# EAGLE library part CONN_SAS_MINI (library GPLIB_CONN)
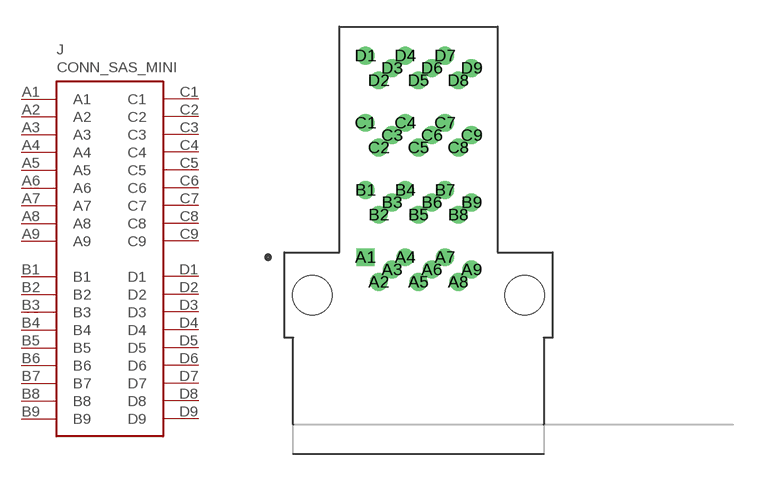
[diagram p39: symbol with the pads of CONN_SAS_MINI_AMPHENOL_G40H11331HR; footprint CONN_SAS_MINI_AMPHENOL_G40H11331HR]

Designator prefix J

## CONN_SAS_MINI  [CONN_SAS_MINI_AMPHENOL_G40H11331HR]
A1  A1  pas
A2  A2  pas
A3  A3  pas
A4  A4  pas
A5  A5  pas
A6  A6  pas
A7  A7  pas
A8  A8  pas
A9  A9  pas
B1  B1  pas
B2  B2  pas
B3  B3  pas
B4  B4  pas
B5  B5  pas
B6  B6  pas
B7  B7  pas
B8  B8  pas
B9  B9  pas
C1  C1  pas
C2  C2  pas
C3  C3  pas
C4  C4  pas
C5  C5  pas
C6  C6  pas
C7  C7  pas
C8  C8  pas
C9  C9  pas
D1  D1  pas
D2  D2  pas
D3  D3  pas
D4  D4  pas
D5  D5  pas
D6  D6  pas
D7  D7  pas
D8  D8  pas
D9  D9  pas

## Footprint CONN_SAS_MINI_AMPHENOL_G40H11331HR (pad centres in mm)
drill 0.5 pad 0.8 square: A1 -3,0.7
drill 0.5 pad 0.8: A2 -2.25,-0.7; A3 -1.5,0; A4 -0.75,0.7; A5 0,-0.7; A6 0.75,0; A7 1.5,0.7; A8 2.25,-0.7; A9 3,0; B1 -3,4.5; B2 -2.25,3.1; B3 -1.5,3.8; B4 -0.75,4.5; B5 0,3.1; B6 0.75,3.8; B7 1.5,4.5; B8 2.25,3.1; B9 3,3.8; C1 -3,8.3; C2 -2.25,6.9; C3 -1.5,7.6; C4 -0.75,8.3; C5 0,6.9; C6 0.75,7.6; C7 1.5,8.3; C8 2.25,6.9; C9 3,7.6; D1 -3,12.1; D2 -2.25,10.7; D3 -1.5,11.4; D4 -0.75,12.1; D5 0,10.7; D6 0.75,11.4; D7 1.5,12.1; D8 2.25,10.7; D9 3,11.4
hole 2.25 at -6,-1.45
hole 2.25 at 6,-1.45